# Altium schematic symbol library Capacitors.SchLib: 56 symbols
Pins are listed as number, name and electrical type; pins without a type are passive.

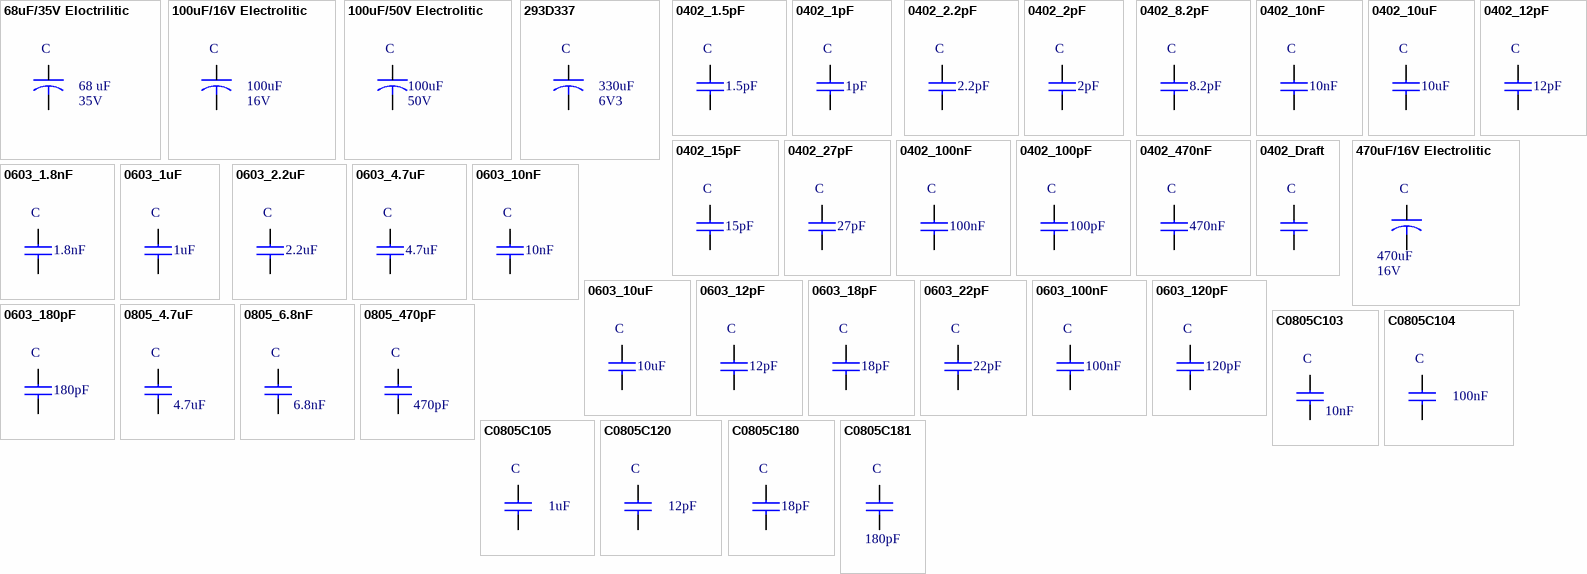
[diagram p0: symbols 68uF/35V Eloctrilitic to C0805C181]

## 68uF/35V Eloctrilitic
designator C  value 68 uF  Voltage: 35V  (hidden comment: *)
Manufacturer: KEMET; Manufacturer Code: EXV686M035A9HAA; Unit Price: 0,27 €; Farnell Code: 2069191
footprint D Size
pins: 1, 2

## 100uF/16V Electrolitic
designator C  value 100uF  Voltage: 16V  (hidden comment: *)
Manufacturer: Panasonic; Manufacturer Code: EEEHA1C01WP; Unit Price: 0.47 €; Farnell Code: 1973308
footprint D Size
pins: 1, 2

## 100uF/50V Electrolitic
designator C  value 100uF  Voltage: 50V  (hidden comment: *)
Manufacturer: Vishay; Manufacturer Code: 222215097101; Farnell Code: 1838778; Unit Price: 0,94 €
footprint 150CLZ1010 (10x10x10 (LxWxH))
pins: 1, 2

## 293D337
designator C  value 330uF  Voltage: 6V3  (hidden comment: *)
Manufacturer: VISHAY; Manufacturer Code: 293D337X96R3D2TE3; Farnell Code: 1754159; Unit Price: 0,95 €
footprint D Case
pins: 1, 2

## 0402_1.5pF
designator C  value 1.5pF  (hidden comment: *)
Manufacturer: MURATA; Manufacturer Code: GRM1555C1H1R5CA01D; Tolerance: ±0.25pF; Voltage: 50V; Dielectric Characteristic: C0G/NP0; Unit Price: 0,014 €; Farnell Code: 1828869; MOQ: 1; Package: 0402
footprint 0402 SMD Ceramic Capacitor
pins: 1, 2

## 0402_1pF
designator C  value 1pF  (hidden comment: *)
Manufacturer: MURATA; Manufacturer Code: GRM1555C1H1R0CZ01D; Tolerance: ±0.25pF; Voltage: 50V; Dielectric Characteristic: C0G/NP0; Unit Price: 0,026 €; Farnell Code: 2218842; MOQ: 1; Package: 0402
footprint 0402 SMD Ceramic Capacitor
pins: 1, 2

## 0402_2.2pF
designator C  value 2.2pF  (hidden comment: *)
Manufacturer: MURATA; Manufacturer Code: GRM1555C1H2R2CZ01D; Tolerance: ±0.25pF; Voltage: 50V; Dielectric Characteristic: C0G/NP0; Unit Price: 0,02 €; Farnell Code: 8819610; MOQ: 10; Package: 0402
footprint 0402 SMD Ceramic Capacitor
pins: 1, 2

## 0402_2pF
designator C  value 2pF  (hidden comment: *)
Manufacturer: MURATA; Manufacturer Code: GRM1555C1H2R2CZ01D; Tolerance: ±0.25pF; Voltage: 50V; Dielectric Characteristic: C0G/NP0; Unit Price: 0,02 €; Farnell Code: 8819610; MOQ: 10; Package: 0402
footprint 0402 SMD Ceramic Capacitor
pins: 1, 2

## 0402_8.2pF
designator C  value 8.2pF  (hidden comment: *)
Manufacturer: MURATA; Manufacturer Code: GRM1555C1H8R2CA01D; Tolerance: ±0.25pF; Voltage: 50V; Dielectric Characteristic: C0G/NP0; Unit Price: 0,014 €; Farnell Code: 1828874; MOQ: 10; Package: 0402
footprint 0402 SMD Ceramic Capacitor
pins: 1, 2

## 0402_10nF
designator C  value 10nF  (hidden comment: *)
Manufacturer: MURATA; Manufacturer Code: GRM155R71C103KA01D; Tolerance: ±10%; Voltage: 25V; Dielectric Characteristic: X7R; Unit Price: 0,014 €; Farnell Code: 8819734; MOQ: 10; Package: 0402
footprint 0402 SMD Ceramic Capacitor
pins: 1, 2

## 0402_10uF
designator C  value 10uF  (hidden comment: *)
Manufacturer: MURATA; Manufacturer Code: GRM155R60E106ME16D; Tolerance: ±20%; Voltage: 2.5V; Dielectric Characteristic: X5R; Unit Price: 0,81 €; Farnell Code: 2218853; MOQ: 1; Package: 0402
footprint 0402 SMD Ceramic Capacitor
pins: 1, 2

## 0402_12pF
designator C  value 12pF  (hidden comment: *)
Manufacturer: MURATA; Manufacturer Code: GRM1555C1H120JA01D; Tolerance: ±5%; Voltage: 50V; Dielectric Characteristic: C0G/NP0; Unit Price: 0,014 €; Farnell Code: 1828875; MOQ: 10; Package: 0402
footprint 0402 SMD Ceramic Capacitor
pins: 1, 2

## 0402_15pF
designator C  value 15pF  (hidden comment: *)
Manufacturer: MURATA; Manufacturer Code: GRM1555C1H150JA01D; Tolerance: ±5%; Voltage: 50V; Dielectric Characteristic: C0G/NP0; Unit Price: 0,02 €; Farnell Code: 2218840; MOQ: 1; Package: 0402
footprint 0402 SMD Ceramic Capacitor
pins: 1, 2

## 0402_27pF
designator C  value 27pF  (hidden comment: *)
Manufacturer: MURATA; Manufacturer Code: GRM1555C1H270JA01D; Tolerance: ±5%; Voltage: 50V; Dielectric Characteristic: C0G/NP0; Unit Price: 0,014 €; Farnell Code: 1828877; MOQ: 10; Package: 0402
footprint 0402 SMD Ceramic Capacitor
pins: 1, 2

## 0402_100nF
designator C  value 100nF  (hidden comment: *)
Manufacturer: MURATA; Manufacturer Code: GRM155R71C104KA88D; Tolerance: ±10%; Voltage: 50V; Dielectric Characteristic: X7R; Unit Price: 0,017 €; Farnell Code: 8819742; MOQ: 10; Package: 0402
footprint 0402 SMD Ceramic Capacitor
pins: 1, 2

## 0402_100pF
designator C  value 100pF  (hidden comment: *)
Manufacturer: MURATA; Manufacturer Code: GRM1555C1H101JJA01D; Tolerance: ±5%; Voltage: 50V; Dielectric Characteristic: C0G/NP0; Unit Price: 0,035 €; Farnell Code: 2218836; MOQ: 1; Package: 0402
footprint 0402 SMD Ceramic Capacitor
pins: 1, 2

## 0402_470nF
designator C  value 470nF  (hidden comment: *)
Manufacturer: MURATA; Manufacturer Code: GRM155R60J474KE19D; Tolerance: ±10%; Voltage: 6.3V; Dielectric Characteristic: X5R; Unit Price: 0,06 €; Farnell Code: 8819726; MOQ: 10; Package: 0402
footprint 0402 SMD Ceramic Capacitor
pins: 1, 2

## 0402_Draft
designator C  (value not drawn)
Tolerance: ±%; Package: 0402
footprint 0402 SMD Ceramic Capacitor
pins: 1, 2

## 470uF/16V Electrolitic
designator C  value 470uF  Voltage: 16V  (hidden comment: *)
Manufacturer: VISHAY; Manufacturer Code: MAL214097511E3; Farnell Code: 1834206; Unit Price: 1,25 €
footprint 150CLZ1010 (10x10x10 (LxWxH))
pins: 1, 2

## 0603_1.8nF
designator C  value 1.8nF  (hidden comment: *)
Manufacturer: MULTICOMP; Manufacturer Code: MC0603N182J500CT; Tolerance: ±10%; Voltage: 50V; Dielectric Characteristic: x7r; Unit Price: 0,0215 €; Farnell Code: 1759092; MOQ: 10; Package: 0603
footprint 0603 SMD Ceramic Capacitor (Footprint not found)
pins: 1, 2

## 0603_1uF
designator C  value 1uF  (hidden comment: *)
Manufacturer: KEMET; Manufacturer Code: C0603C105K9RACTU; Tolerance: ±10%; Voltage: 6.3V; Dielectric Characteristic: X5R; Unit Price: 0,162 €; Farnell Code: 1865556; MOQ: 1; Package: 0603
footprint 0603 SMD Ceramic Capacitor (Footprint not found)
pins: 1, 2

## 0603_2.2uF
designator C  value 2.2uF  (hidden comment: *)
Manufacturer: MURATA; Manufacturer Code: GRM188R61E225KA12D; Tolerance: ±10%; Voltage: 25V; Dielectric Characteristic: X5R; Unit Price: 0,09 €; Farnell Code: 1845734; MOQ: 10; Package: 0603
footprint 0603 SMD Ceramic Capacitor (Footprint not found)
pins: 1, 2

## 0603_4.7uF
designator C  value 4.7uF  (hidden comment: *)
Manufacturer: TDK; Manufacturer Code: CGB3B1X5R1A475M055AC; Tolerance: ±10%; Voltage: 10V; Dielectric Characteristic: CGB; Unit Price: 0,223 €; Farnell Code: 2526308; MOQ: 10; Package: 0603
footprint 0603 SMD Ceramic Capacitor (Footprint not found)
pins: 1, 2

## 0603_10nF
designator C  value 10nF  (hidden comment: *)
Manufacturer: MULTICOMP; Manufacturer Code: MC0603F103Z500CT; Voltage: 50V; Dielectric Characteristic: Y5V; Unit Price: 0,0174 €; Farnell Code: 1759104; MOQ: 10; Package: 0603
footprint 0603 SMD Ceramic Capacitor (Footprint not found)
pins: 1, 2

## 0603_10uF
designator C  value 10uF  (hidden comment: *)
Manufacturer: MURATA; Manufacturer Code: GRM188R60J106ME47D; Tolerance: ±20%; Voltage: 6.3V; Dielectric Characteristic: X5R; Unit Price: 0,24 €; Farnell Code: 1735528; MOQ: 10; Package: 0603
footprint 0603 SMD Ceramic Capacitor (Footprint not found)
pins: 1, 2

## 0603_12pF
designator C  value 12pF  (hidden comment: *)
Manufacturer: MULTICOMP; Manufacturer Code: MC0603N120J500CT; Tolerance: ±5%; Voltage: 50V; Dielectric Characteristic: C0G/NP0; Unit Price: 0,0137 €; Farnell Code: 1759054; MOQ: 10; Package: 0603
footprint 0603 SMD Ceramic Capacitor (Footprint not found)
pins: 1, 2

## 0603_18pF
designator C  value 18pF  (hidden comment: *)
Manufacturer: MULTICOMP; Manufacturer Code: MC0603N180J500CT; Tolerance: ±10%; Voltage: 50V; Dielectric Characteristic: C0G/NP0; Unit Price: 0,0157 €; Farnell Code: 1759056; MOQ: 10; Package: 0603
footprint 0603 SMD Ceramic Capacitor (Footprint not found)
pins: 1, 2

## 0603_22pF
designator C  value 22pF  (hidden comment: *)
Manufacturer: MULTICOMP; Manufacturer Code: MC0603N220K500CT; Tolerance: ±10%; Voltage: 50V; Dielectric Characteristic: C0G/NP0; Unit Price: 0,0224 €; Farnell Code: 2309012; MOQ: 10; Package: 0603
footprint 0603 SMD Ceramic Capacitor (Footprint not found)
pins: 1, 2

## 0603_100nF
designator C  value 100nF  (hidden comment: *)
Manufacturer: MULTICOMP; Manufacturer Code: MC0603F104Z500CT; Voltage: 50V; Dielectric Characteristic: Y5V; Unit Price: 0,0207 €; Farnell Code: 1759123; MOQ: 10; Package: 0603
footprint 0603 SMD Ceramic Capacitor (Footprint not found)
pins: 1, 2

## 0603_120pF
designator C  value 120pF  (hidden comment: *)
Manufacturer: MULTICOMP; Manufacturer Code: MC0603N121J500CT; Tolerance: ±5%; Voltage: 50V; Dielectric Characteristic: C0G/NP0; Unit Price: 0,0054 €; Farnell Code: 1759067; MOQ: 10; Package: 0603
footprint 0603 SMD Ceramic Capacitor (Footprint not found)
pins: 1, 2

## 0603_180pF
designator C  value 180pF  (hidden comment: *)
Manufacturer: MULTICOMP; Manufacturer Code: MC0603N181J500CT; Tolerance: ±5%; Voltage: 50V; Dielectric Characteristic: C0G/NP0; Unit Price: 0,0051 €; Farnell Code: 1759069; MOQ: 10; Package: 0603
footprint 0603 SMD Ceramic Capacitor (Footprint not found)
pins: 1, 2

## 0805_4.7uF
designator C  value 4.7uF  (hidden comment: *)
Manufacturer: MULTICOMP; Manufacturer Code: MC0805X475K250CT; Voltage: 25V; Tolerance: ±10%; Dielectric Characteristic: X5R; Farnell Code: 1759431; Unit Price: 0,109 €; MOQ: 10; Package: 0805
footprint 0805 SMD Ceramic Capacitor
pins: 1, 2

## 0805_6.8nF
designator C  value 6.8nF  (hidden comment: *)
Manufacturer: MURATA; Manufacturer Code: GRM2195C1H682JA01D; Voltage: 50V; Tolerance: ±5%; Dielectric Characteristic: X5R; Farnell Code: 8820066; Unit Price: 0,139 €; MOQ: 10; Package: 0805
footprint 0805 SMD Ceramic Capacitor
pins: 1, 2

## 0805_470pF
designator C  value 470pF  (hidden comment: *)
Manufacturer: MULTICOMP; Manufacturer Code: C0805N471J500CT; Voltage: 50V; Tolerance: ±5%; Dielectric Characteristic: X7R; Farnell Code: 1759217; Unit Price: 0,64 €; MOQ: 10; Package: 0805
footprint 0805 SMD Ceramic Capacitor
pins: 1, 2

## C0805C103
designator C  value 10nF  (hidden comment: *)
Manufacturer: KEMET; Manufacturer Code: C0805C103J3GACTU; Voltage: 25V; Temp. Coefficient: ±30ppm/°C; Tolerance: ±5%; Farnell Code: 1457736; Unit Price: 0,64 €; Package: 0805
footprint 0805 SMD Ceramic Capacitor
pins: 1, 2

## C0805C104
designator C  value 100nF  (hidden comment: *)
Manufacturer Code: C0805C104J5RACTU; Manufacturer: KEMET; Voltage: 50V; Farnell Code: 1414663; Unit Price: 0,06 €; Package: 0805
footprint 0805 SMD Ceramic Capacitor
pins: 1, 2

## C0805C105
designator C  value 1uF  (hidden comment: *)
Manufacturer Code: MC0805F105Z500CT; Manufacturer: MULTICOMP; Voltage: 50V; Farnell Code: 1759432; Unit Price: 0,0416 €; Package: 0805; MOQ: 10
footprint 0805 SMD Ceramic Capacitor
pins: 1, 2

## C0805C120
designator C  value 12pF  (hidden comment: *)
Manufacturer Code: C0805C120J5GACTU; Manufacturer: KEMET; Voltage: 50V; Capacitance Tolerance: ±5%; Farnell Code: 1414666; Unit Price: 0,0403 €; Package: 0805; MOQ: 10
footprint 0805 SMD Ceramic Capacitor
pins: 1, 2

## C0805C180
designator C  value 18pF  (hidden comment: *)
Manufacturer Code: C0805C180J5GACTU; Manufacturer: KEMET; Voltage: 50V; Farnell Code: 1414673; Unit Price: 0,038 €; Package: 0805
footprint 0805 SMD Ceramic Capacitor
pins: 1, 2

## C0805C181
designator C  value 180pF  (hidden comment: *)
Manufacturer: KEMET; Manufacturer Code: C0805C181J5GAC; Tolerance: ±5%; Farnell Code: 2070454; Unit Price: 0,046 €; Package: 0805
footprint 0805 SMD Ceramic Capacitor
pins: 1, 2

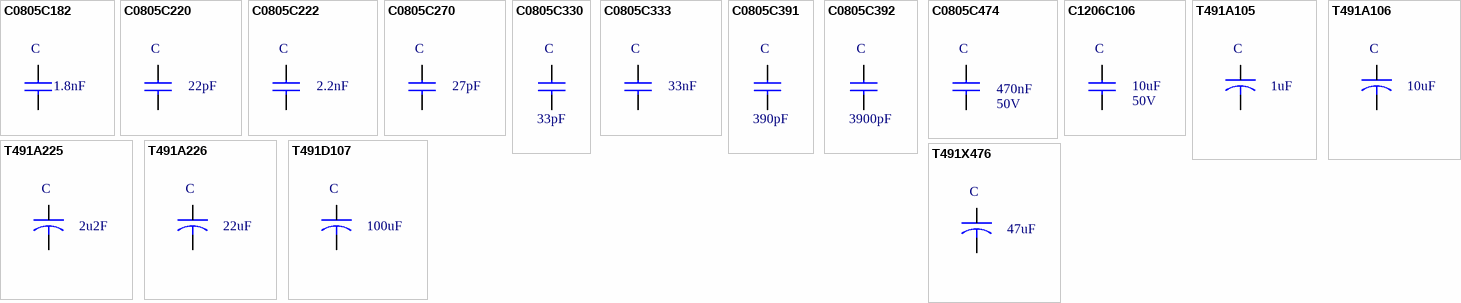
[diagram p1: symbols C0805C182 to T491X476]

## C0805C182
designator C  value 1.8nF  (hidden comment: *)
Manufacturer: KEMET; Manufacturer Code: C0805C182J5GACTU; Temp. Coefficient: ±30ppm/°C; Tolerance: ±5%; Voltage: 50V; Farnell Code: 1414675; Unit Price: 0,21 €; Package: 0805
footprint 0805 SMD Ceramic Capacitor
pins: 1, 2

## C0805C220
designator C  value 22pF  (hidden comment: *)
Manufacturer Code: MC0805N220J500CT; Manufacturer: MULTICOMP; Voltage: 50V; Tolerace: ± 5%; Farnell Code: 1759195; Unit Price: 0,0291 €; Package: 0805
footprint 0805 SMD Ceramic Capacitor
pins: 1, 2

## C0805C222
designator C  value 2.2nF  (hidden comment: *)
Manufacturer Code: MC0805B222J101CT; Manufacturer: MULTICOMP; Voltage: 100V; Tolerace: ± 5%; Farnell Code: 2320822; Unit Price: 0,029 €; Package: 0805
footprint 0805 SMD Ceramic Capacitor
pins: 1, 2

## C0805C270
designator C  value 27pF  (hidden comment: *)
Manufacturer Code: C0805C270J5GACTU; Manufacturer: KEMET; Voltage: 50V; Farnell Code: 1414683; Unit Price: 0,047 €; Package: 0805
footprint 0805 SMD Ceramic Capacitor
pins: 1, 2

## C0805C330
designator C  value 33pF  (hidden comment: *)
Manufacturer: KEMET; Manufacturer Code: C0805C330J5GACTU; Voltage: 50V; Unit Price: 0,047 €; Farnell Code: 1414685; Package: 0805
footprint 0805 SMD Ceramic Capacitor
pins: 1, 2

## C0805C333
designator C  value 33nF  (hidden comment: *)
Manufacturer Code: MC0805B333K500CT; Manufacturer: MULTICOMP; Voltage: 50V; Tolerace: ± 10%; Farnell Code: 1759257; Unit Price: 0,022 €; MOQ: 10; Package: 0805
footprint 0805 SMD Ceramic Capacitor
pins: 1, 2

## C0805C391
designator C  value 390pF  (hidden comment: *)
Manufacturer Code: C0805C391J5GACTU; Manufacturer: MULTICOMP; Voltage: 50V; Farnell Code: 1163547; Unit Price: 0,17 €; Package: 0805
footprint 0805 SMD Ceramic Capacitor
pins: 1, 2

## C0805C392
designator C  value 3900pF  (hidden comment: *)
Manufacturer: MULTICOMP; Manufacturer Code: C0805C392K5RACTU; Voltage: 50V; Unit Price: 0,043 €; Farnell Code: 1650876; Package: 0805
footprint 0805 SMD Ceramic Capacitor
pins: 1, 2

## C0805C474
designator C  value 470nF  Voltage: 50V  (hidden comment: *)
Manufacturer Code: 08055C474K4T2A; Manufacturer: AVX; Farnell Code: 1833885; Unit Price: 0,20 €; Package: 0805
footprint 0805 SMD Ceramic Capacitor (Footprint not found)
pins: 1, 2

## C1206C106
designator C  value 10uF  Voltage: 50V  (hidden comment: *)
Manufacturer Code: MC1206B475K500CT; Manufacturer: MULTICOMP; Capacitance Tolerance: ±10%; Farnell Code: 2320908; Unit Price: 0,644 €; MOQ: 10
footprint 1206 SMD Ceramic Capacitor
pins: 1, 2

## T491A105
designator C  value 1uF  (hidden comment: *)
Manufacturer Code: T491A105M016AT; Manufacturer: KEMET; Voltage: 16V; Capacitance Tolerance: ±20%; Farnell Code: 1163340; Unit Price: 0,143 €; MOQ: 1
footprint A Case
pins: 1, 2

## T491A106
designator C  value 10uF  (hidden comment: *)
Manufacturer Code: T491A106K006AT; Manufacturer: KEMET; Voltage: 6V3; Farnell Code: 1457412; Unit Price: 0,143 €
footprint A Case
pins: 1, 2

## T491A225
designator C  value 2u2F  (hidden comment: *)
Manufacturer Code: T491A225K010AT; Manufacturer: KEMET; Voltage: 10V; Farnell Code: 1457417; Unit Price: 0,16 €
footprint A Case
pins: 1, 2

## T491A226
designator C  value 22uF  (hidden comment: *)
Manufacturer Code: T491A226K010AT; Manufacturer: KEMET; Voltage: 10V; Farnell Code: 1457420; Unit Price: 0,52 €
footprint A Case
pins: 1, 2

## T491D107
designator C  value 100uF  (hidden comment: *)
Manufacturer Code: T491D107K010AT; Manufacturer: KEMET; Voltage: 10V; Farnell Code: 1457492; Unit Price: 0,47 €
footprint D Case
pins: 1, 2

## T491X476
designator C  value 47uF  (hidden comment: *)
Manufacturer Code: T491X476K035AT; Manufacturer: KEMET; Voltage: 35V; Farnell Code: 1457546; Unit Price: 2,38 €
footprint E Case (Capacitor)
pins: 1, 2